# Altium schematic symbol library HLK-1D0505A.SchLib: 1 symbol
Pins are listed as number, name and electrical type; pins without a type are passive.

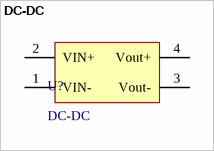
[diagram p0: symbol DC-DC]

## DC-DC
designator U?
pins: 1 VIN-, 2 VIN+, 3 Vout-, 4 Vout+